# EAGLE library part A4998 (library weller-eagle)
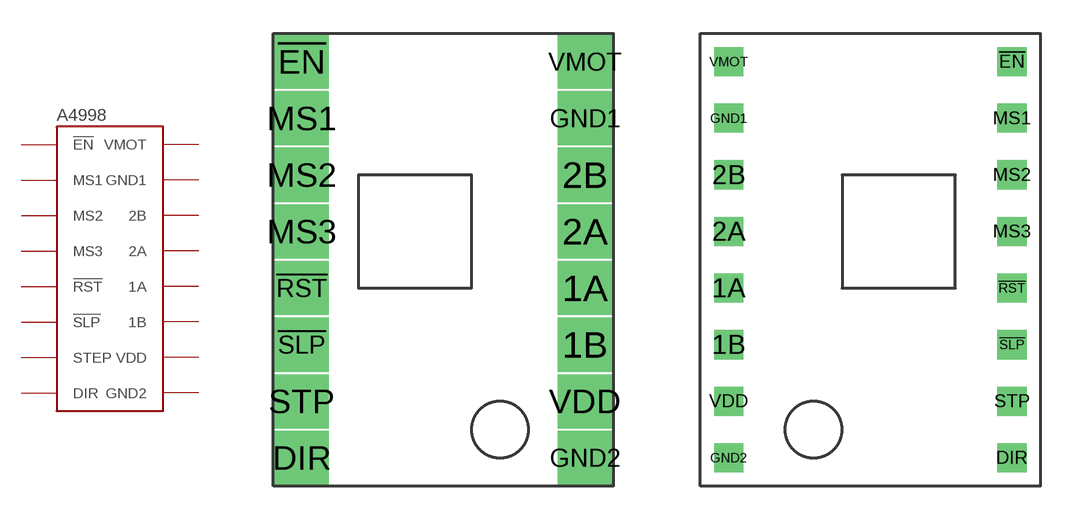
[diagram p0: symbol with the pads of A4998; footprints A4998, A4998-VIA-REV]

Designator prefix -

## A4998  [A4998]
1A  1A
1B  1B
2A  2A
2B  2B
!EN  !EN
!RST  !RST
!SLP  !SLP
DIR  DIR
GND1  GND1
GND2  GND2
MS1  MS1
MS2  MS2
MS3  MS3
STP  STEP
VDD  VDD
VMOT  VMOT

## A4998MIRROR  [A4998-VIA-REV]
Pads as for A4998

## Footprint A4998 (pad centres in mm)
drill 1.62 pad 2.134 square: 1A 13.97,8.89; 1B 13.97,6.35; 2A 13.97,11.43; 2B 13.97,13.97; !EN 1.27,19.05; !RST 1.27,8.89; !SLP 1.27,6.35; DIR 1.27,1.27; GND1 13.97,16.51; GND2 13.97,1.27; MS1 1.27,16.51; MS2 1.27,13.97; MS3 1.27,11.43; STP 1.27,3.81; VDD 13.97,3.81; VMOT 13.97,19.05

## Footprint A4998-VIA-REV (pad centres in mm)
drill 0.8 square: 1A 1.27,8.89; 1B 1.27,6.35; 2A 1.27,11.43; 2B 1.27,13.97; !EN 13.97,19.05; !RST 13.97,8.89; !SLP 13.97,6.35; DIR 13.97,1.27; GND1 1.27,16.51; GND2 1.27,1.27; MS1 13.97,16.51; MS2 13.97,13.97; MS3 13.97,11.43; STP 13.97,3.81; VDD 1.27,3.81; VMOT 1.27,19.05